# EAGLE library part M06_SMD (library custom)
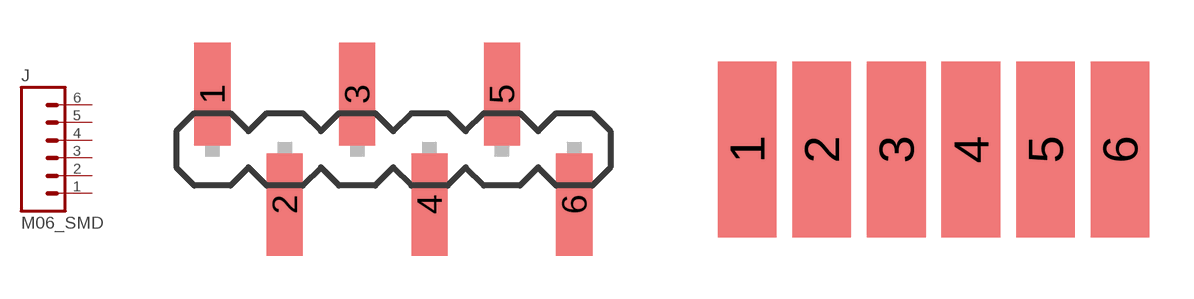
[diagram p33: symbol with the pads of M06_SMD; footprints M06_SMD, M06_SMD_45]

Designator prefix J

## M06_SMDSMD  [M06_SMD]
1  1  pas
2  2  pas
3  3  pas
4  4  pas
5  5  pas
6  6  pas

## M06_SMD  [M06_SMD_45]
Pads as for M06_SMD

## Footprint M06_SMD (pad centres in mm)
smd 1.27 x 3.607: 1 0,1.943; 2 2.54,-1.943; 3 5.08,1.943; 4 7.62,-1.943; 5 10.16,1.943; 6 12.7,-1.943

## Footprint M06_SMD_45 (pad centres in mm)
smd 2 x 6: 1 0,0; 2 2.54,0; 3 5.08,0; 4 7.62,0; 5 10.16,0; 6 12.7,0